# EAGLE library part SMT_DPDT (library VineBadge)
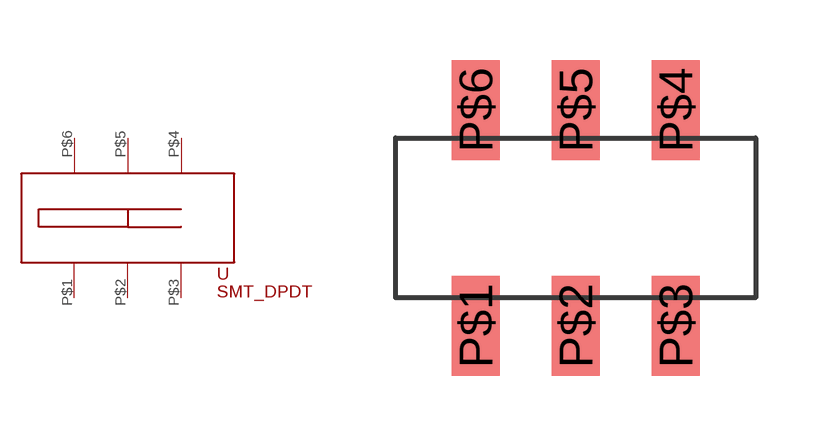
[diagram p1: symbol with the pads of SMT_DPDT; footprint SMT_DPDT]

Designator prefix -

## SMT_DPDT  [SMT_DPDT]
P$1  P$1
P$2  P$2
P$3  P$3
P$4  P$4
P$5  P$5
P$6  P$6

## Footprint SMT_DPDT (pad centres in mm)
smd 1.2 x 2.5: P$1 -2.5,-2.7; P$2 0,-2.7; P$3 2.5,-2.7; P$4 2.5,2.7; P$5 0,2.7; P$6 -2.5,2.7